# EAGLE library part LP2951 (library X893)
http://www.terraelectronica.ru/pdf/NSC/LP2951.pdf
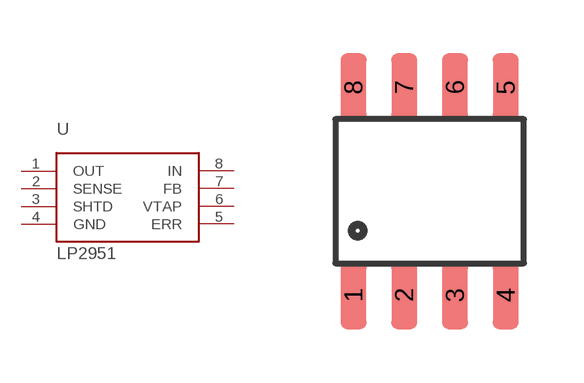
[diagram p73: symbol with the pads of SO08; footprint SO08]

Designator prefix U

## LP2951  [SO08]
1  OUT  pas
2  SENSE  pas
3  SHTD  in
4  GND  pwr
5  ERR  out
6  VTAP  pas
7  FB  pas
8  IN  pas

## Footprint SO08 (pad centres in mm)
Small Outline Package Fits JEDEC packages (narrow SOIC-8)
smd 0.65 x 1.7: 1 -1.905,-2.6; 2 -0.635,-2.6; 3 0.635,-2.6; 4 1.905,-2.6; 5 1.905,2.6; 6 0.635,2.6; 7 -0.635,2.6; 8 -1.905,2.6